# EAGLE library part ICE40UL1K-CM36AITR1K (library FPGA)
FPGA - Field Programmable Gate Array FPGA iCE40-UltraLite 1.2V CBGA PKG Source: Datasheet <http://www.latticesemi.com/~/media/LatticeSemi/Documents/DataSheets/iCE/iCE40UltraLiteDataSheetDS1050.pdf?document_id=50945>
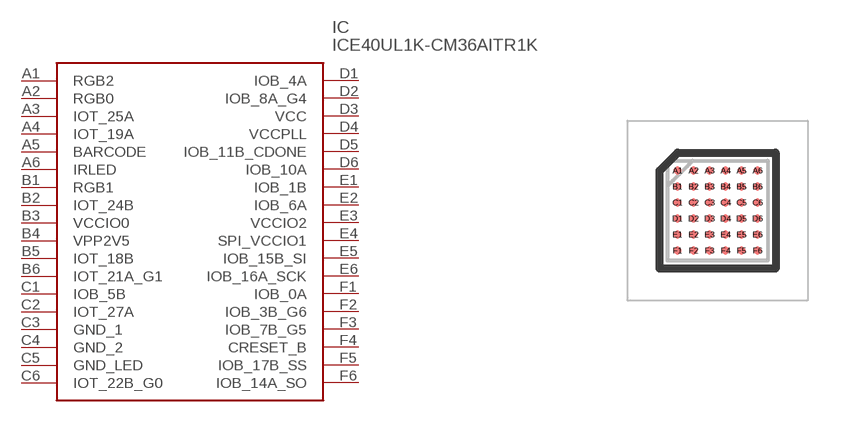
[diagram p1: symbol with the pads of BGA36C40P6X6_250X250X91; footprint BGA36C40P6X6_250X250X91]

Designator prefix IC

## ICE40UL1K-CM36AITR1K (DESCRIPTION: FPGA - Field Programmable Gate Array FPGA iCE40-UltraLite 1.2V CBGA PKG; HEIGHT: 0.91mm; MANUFACTURER_NAME: Lattice; MANUFACTURER_PART_NUMBER: ICE40UL1K-CM36AITR1K; MOUSER_PART_NUMBER: 842-40UL1KCM36AITR1K; MOUSER_PRICE-STOCK: https://www.mouser.com/Search/Refine.aspx?Keyword=842-40UL1KCM36AITR1K)  [BGA36C40P6X6_250X250X91]
A1  RGB2
A2  RGB0
A3  IOT_25A
A4  IOT_19A
A5  BARCODE
A6  IRLED
B1  RGB1
B2  IOT_24B
B3  VCCIO0
B4  VPP2V5
B5  IOT_18B
B6  IOT_21A_G1
C1  IOB_5B
C2  IOT_27A
C3  GND_1
C4  GND_2
C5  GND_LED
C6  IOT_22B_G0
D1  IOB_4A
D2  IOB_8A_G4
D3  VCC
D4  VCCPLL
D5  IOB_11B_CDONE
D6  IOB_10A
E1  IOB_1B
E2  IOB_6A
E3  VCCIO2
E4  SPI_VCCIO1
E5  IOB_15B_SI
E6  IOB_16A_SCK
F1  IOB_0A
F2  IOB_3B_G6
F3  IOB_7B_G5
F4  CRESET_B
F5  IOB_17B_SS
F6  IOB_14A_SO

## Footprint BGA36C40P6X6_250X250X91 (pad centres in mm)
36-Ball ucfBGA Package: iCE40 Ultra
smd 0.2 x 0.2: A1 -1,1; A2 -0.6,1; A3 -0.2,1; A4 0.2,1; A5 0.6,1; A6 1,1; B1 -1,0.6; B2 -0.6,0.6; B3 -0.2,0.6; B4 0.2,0.6; B5 0.6,0.6; B6 1,0.6; C1 -1,0.2; C2 -0.6,0.2; C3 -0.2,0.2; C4 0.2,0.2; C5 0.6,0.2; C6 1,0.2; D1 -1,-0.2; D2 -0.6,-0.2; D3 -0.2,-0.2; D4 0.2,-0.2; D5 0.6,-0.2; D6 1,-0.2; E1 -1,-0.6; E2 -0.6,-0.6; E3 -0.2,-0.6; E4 0.2,-0.6; E5 0.6,-0.6; E6 1,-0.6; F1 -1,-1; F2 -0.6,-1; F3 -0.2,-1; F4 0.2,-1; F5 0.6,-1; F6 1,-1